# Altium integrated library PCB_Project_Smart_Switchboard.IntLib: 10 symbols
Pins are listed as number, name and electrical type; pins without a type are passive.

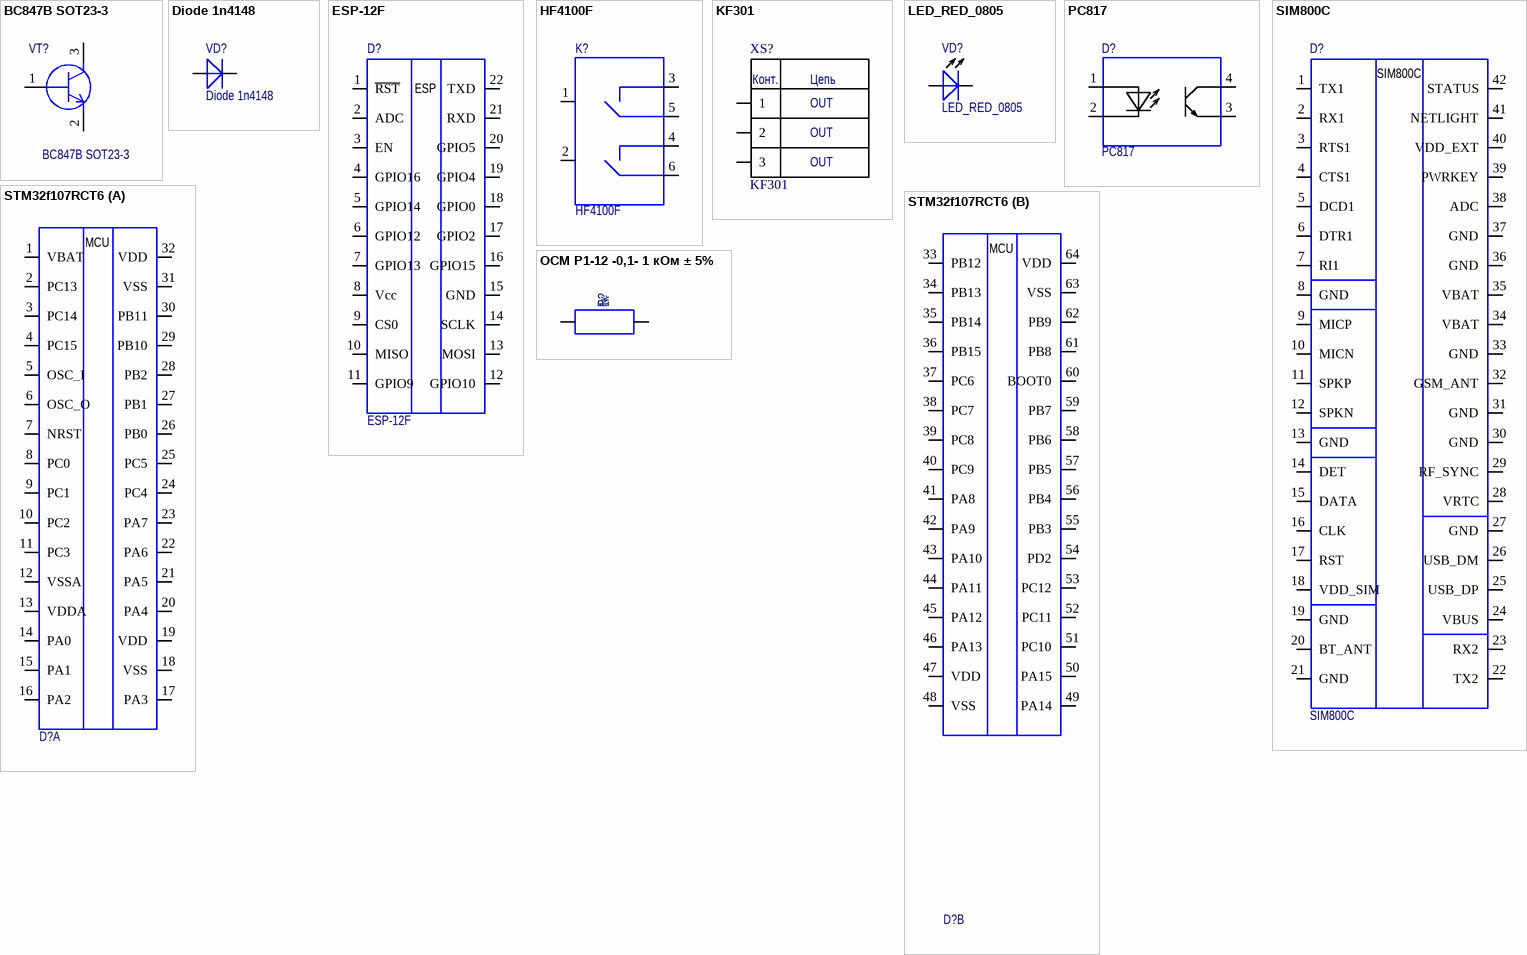
[diagram p0: symbols BC847B SOT23-3 to ОСМ Р1-12 -0,1- 1 кОм ± 5%]

## BC847B SOT23-3
designator VT?
NPN Transistor; Manufacturer 1: Hottech; Part Number: BC847B SOT23-3; CompType: BC847B; Size: SOT23-3; Manufacturer Part Number 1: BC847B
footprint INF-SOT23_M (SOT23, 3-Leads, Body 2.9x1.3 mm, Pitch 0.95 mm, IPC Low Density)
pins: 1 B, 2 E, 3 K

## Diode 1n4148
designator VD?
Manufacturer Part Number 1: 1N4148WS; Manufacturer 1: Hottech
footprint SOD323 (SOD, 2-Leads, Body 1.25x2.50mm, IPC Medium Density)
pins: 1, 2

## ESP-12F
designator D?
footprint ESP8266 ESP-12-E
pins: 1 ~{RST}, 2 ADC, 3 EN, 4 GPIO16, 5 GPIO14, 6 GPIO12, 7 GPIO13, 8 Vcc, 9 CS0, 10 MISO, 11 GPIO9, 12 GPIO10, 13 MOSI, 14 SCLK, 15 GND, 16 GPIO15, 17 GPIO2, 18 GPIO0, 19 GPIO4, 20 GPIO5, 21 RXD, 22 TXD
text: ESP

## HF4100F
designator K?
footprint HK4100F
pins: 1, 2, 3, 4, 5, 6

## KF301
designator XS?
Manufacturer Part Number 1: KF301-5.0-3P; Manufacturer 1: CIXI SANHE
footprint KF301-5.08-3P (KF301, pitch 5.08mm, 3Pins, 300V, 16A (250V, 17A))
pins: 1, 2, 3
text: Конт.; Цепь; OUT

## LED_RED_0805
designator VD?
Manufacturer Part Number 1: KPHCM-2012SURCK; Manufacturer 1: Kingbright
footprint VD0805
pins: 1, 2

## PC817
designator D?
Manufacturer 1: UMW; Manufacturer Part Number 1: PC817C
footprint Model Name (Footprint not found)
footprint DIP-4
pins: 1 Anode, 2 Cathode, 3 Emitter, 4 Collector

## SIM800C
designator D?
footprint SIM800C
pins: 1 TX1, 2 RX1, 3 RTS1, 4 CTS1, 5 DCD1, 6 DTR1, 7 RI1, 8 GND, 9 MICP, 10 MICN, 11 SPKP, 12 SPKN, 13 GND, 14 DET, 15 DATA, 16 CLK, 17 RST, 18 VDD_SIM, 19 GND, 20 BT_ANT, 21 GND, 22 TX2, 23 RX2, 24 VBUS, 25 USB_DP, 26 USB_DM, 27 GND, 28 VRTC, 29 RF_SYNC, 30 GND, 31 GND, 32 GSM_ANT, 33 GND, 34 VBAT, 35 VBAT, 36 GND, 37 GND, 38 ADC, 39 PWRKEY, 40 VDD_EXT, 41 NETLIGHT, 42 STATUS

## STM32f107RCT6
designator D?  (value not drawn)
Manufacturer 1: STMicroelectronics; Manufacturer Part Number 1: STM32F107RCT6
footprint LQFP-64 (TSQFP, 64-Leads, Body 12,0x12,0mm (max), Pitch 0,50mm, IPC Low Density)
part A pins: 1 VBAT, 2 PC13, 3 PC14, 4 PC15, 5 OSC_I, 6 OSC_O, 7 NRST, 8 PC0, 9 PC1, 10 PC2, 11 PC3, 12 VSSA, 13 VDDA, 14 PA0, 15 PA1, 16 PA2, 17 PA3, 18 VSS, 19 VDD, 20 PA4, 21 PA5, 22 PA6, 23 PA7, 24 PC4, 25 PC5, 26 PB0, 27 PB1, 28 PB2, 29 PB10, 30 PB11, 31 VSS, 32 VDD
part B pins: 33 PB12, 34 PB13, 35 PB14, 36 PB15, 37 PC6, 38 PC7, 39 PC8, 40 PC9, 41 PA8, 42 PA9, 43 PA10, 44 PA11, 45 PA12, 46 PA13, 47 VDD, 48 VSS, 49 PA14, 50 PA15, 51 PC10, 52 PC11, 53 PC12, 54 PD2, 55 PB3, 56 PB4, 57 PB5, 58 PB6, 59 PB7, 60 BOOT0, 61 PB8, 62 PB9, 63 VSS, 64 VDD
part A text: MCU
part B text: MCU

## ОСМ Р1-12 -0,1- 1 кОм ± 5%
designator R?, comment value 1к  (hidden comment: Resistor)
Manufacturer Part Number 1: RC0603JR-071KL; Manufacturer 1: YAGEO; Tolerance: ± 1% - М; Power: 0,1 Вт; TU: АЛЯР.434110.005ТУ, РД В 22.02.218; Size: 0603; HelpURL: Datasheets\Р1-12.pdf
footprint R0603
pins: 1, 2